# EAGLE library part MAX1763 (library custom)
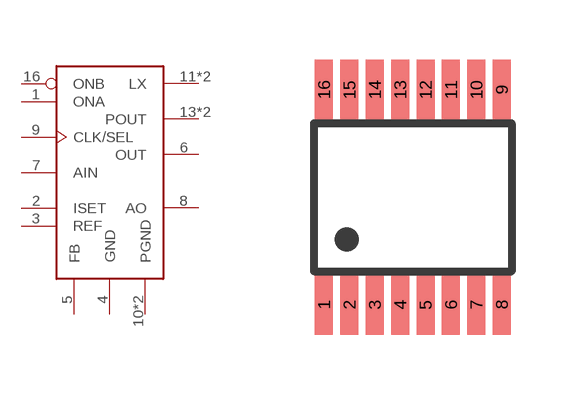
[diagram p8: symbol with the pads of QSOP16; footprint QSOP16]

Designator prefix -

## MAX1763  [QSOP16]
1  ONA
2  ISET
3  REF
4  GND
5  FB
6  OUT
7  AIN
8  AO
9  CLK/SEL
10  PGND
11  LX
12  PGND
13  POUT
14  LX
15  POUT
16  ONB

## Footprint QSOP16 (pad centres in mm)
smd 0.45 x 1.5: 1 -2.223,-2.69; 2 -1.587,-2.69; 3 -0.953,-2.69; 4 -0.318,-2.69; 5 0.318,-2.69; 6 0.953,-2.69; 7 1.587,-2.69; 8 2.223,-2.69; 9 2.223,2.69; 10 1.587,2.69; 11 0.953,2.69; 12 0.318,2.69; 13 -0.318,2.69; 14 -0.953,2.69; 15 -1.587,2.69; 16 -2.223,2.69